# Altium footprint library diodos.PcbLib: 4 footprints
Each footprint in its own frame and in the unit in brackets; x right, y up, seen from the top. Pads: shape width x height; smd on the part's side, far side on the other; paste and mask are expansions set on the pad; w line width, h text height; cw(c..) or ccw(c..) is an arc to the next point about the centre after c.
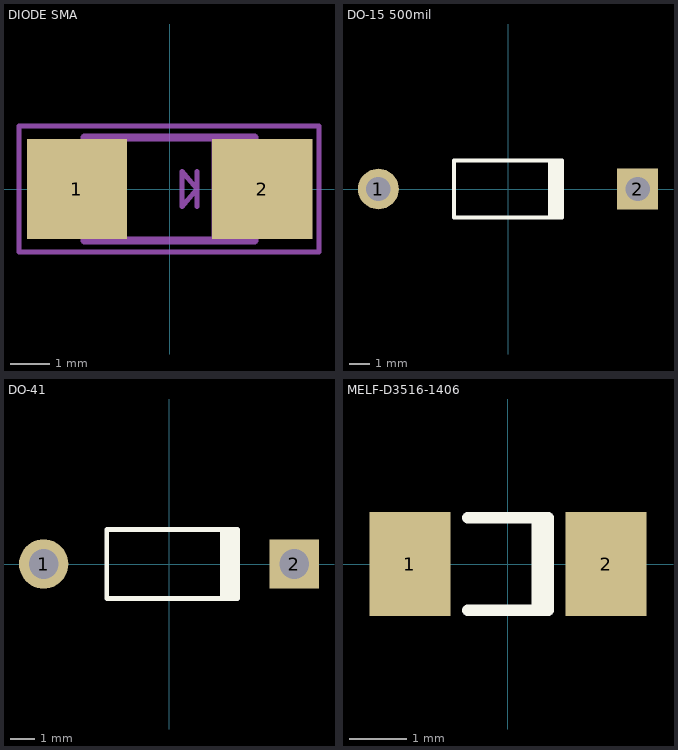
[diagram p0: the footprints below, top view; thin cyan lines are the x and y axes]

## DIODE SMA [mil]
pads (2):
  rect 100x100 smd: 1(-92.5,0) 2(92.5,0)
Mechanical 2:
  lines w5: -150.24,-52.62 -150.24,-54.88 ; 27.5,-17.5 27.5,17.5 ; 149.17,54.88 149.17,45.12 ; -150.24,-54.88 -150.24,-62.99 149.17,-62.99 149.17,45.12 ; -150.24,-54.88 -150.24,62.99 149.17,62.99 149.17,45.12 ; 12.5,-17.5 12.5,17.5 27.5,0 12.5,-17.5
Mechanical 8:
  region: 111.22,43.31 111.22,-43.31 85.63,-43.31 85.63,43.31
  region: -111.22,-43.31 -111.22,43.31 -85.63,43.31 -85.63,-43.31
  region: 68.9,48.23 68.9,-48.23 42.32,-48.23 42.32,48.23
  lines w8: -84.65,-51.18 84.65,-51.18 84.65,51.18 -84.65,51.18 -84.65,-51.18
3D body "DO-214AC.step": height 106.3, standoff 0, extent -110.24,-58.07 110.24,58.07

## DO-15 500mil [mm]
height 2.7
pads (2):
  round 2 hole 1.2: 1(-6.35,0)
  rect 2x2 hole 1.2: 2(6.35,0)
Top Overlay:
  rectangle: 1.95,-1.4 2.75,1.4
  lines w0.2: 2.65,-1.4 -2.65,-1.4 -2.65,1.4 2.65,1.4
3D body "DO-15 500mil.step": height 3.53, standoff -2, extent -6.875,-1.749 6.875,1.748

## DO-41 [mm] "Diode, Axial; Body 5.2 x 2.7 mm (LxDia. max), Lead Dia. 0.86 mm (max)"
height 2.8
pads (2):
  round 2 hole 1.2: 1(-5.08,0)
  rect 2x2 hole 1.2: 2(5.08,0)
Top Overlay:
  rectangle: 2.077,-1.4 2.877,1.4
  lines w0.2: 2.777,-1.4 -2.523,-1.4 -2.523,1.4 2.777,1.4
3D body "DO-41-400.step": height 2.53, standoff -2, extent -5.43,-1.201 5.43,1.201

## MELF-D3516-1406 [mm] "Metal Electrode Face (MELF) Diode; Body 3.5 x 1.7 mm (LxDia)"
height 1.7
pads (2):
  rect 1.4x1.8 smd: 1(-1.7,0) 2(1.7,0)
Top Overlay:
  lines w0.2: -0.7,-0.8 0.7,-0.8 0.7,0.8 -0.7,0.8 ; 0.51,-0.8 0.51,0.8
3D body "MiniMelf Diode DO-213AA.stp": height 1.63, standoff 0.04, extent -1.85,-0.798 1.85,0.797